# Altium schematic symbol library oscillator.SchLib: 2 symbols
Pins are listed as number, name and electrical type; pins without a type are passive.

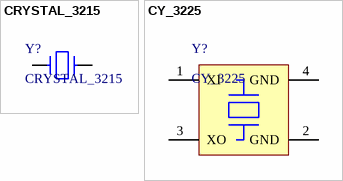
[diagram p0: symbols CRYSTAL_3215 to CY_3225]

## CRYSTAL_3215
designator Y?
CRYSTAL_3215，两脚
footprint CRYSTAL_3215
pins: 1, 2

## CY_3225
designator Y?
footprint CY_3225
pins: 1 XI, 2 GND, 3 XO, 4 GND